# Altium schematic symbol library FJB5555.SchLib: 1 symbol
Pins are listed as number, name and electrical type; pins without a type are passive.

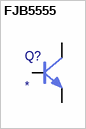
[diagram p0: symbol FJB5555]

## FJB5555
designator Q?
pins: 1 B, 3 E, 4 C